# Altium integrated library Infineon_Microcontroller.IntLib: 721 symbols (part 37 of 66)
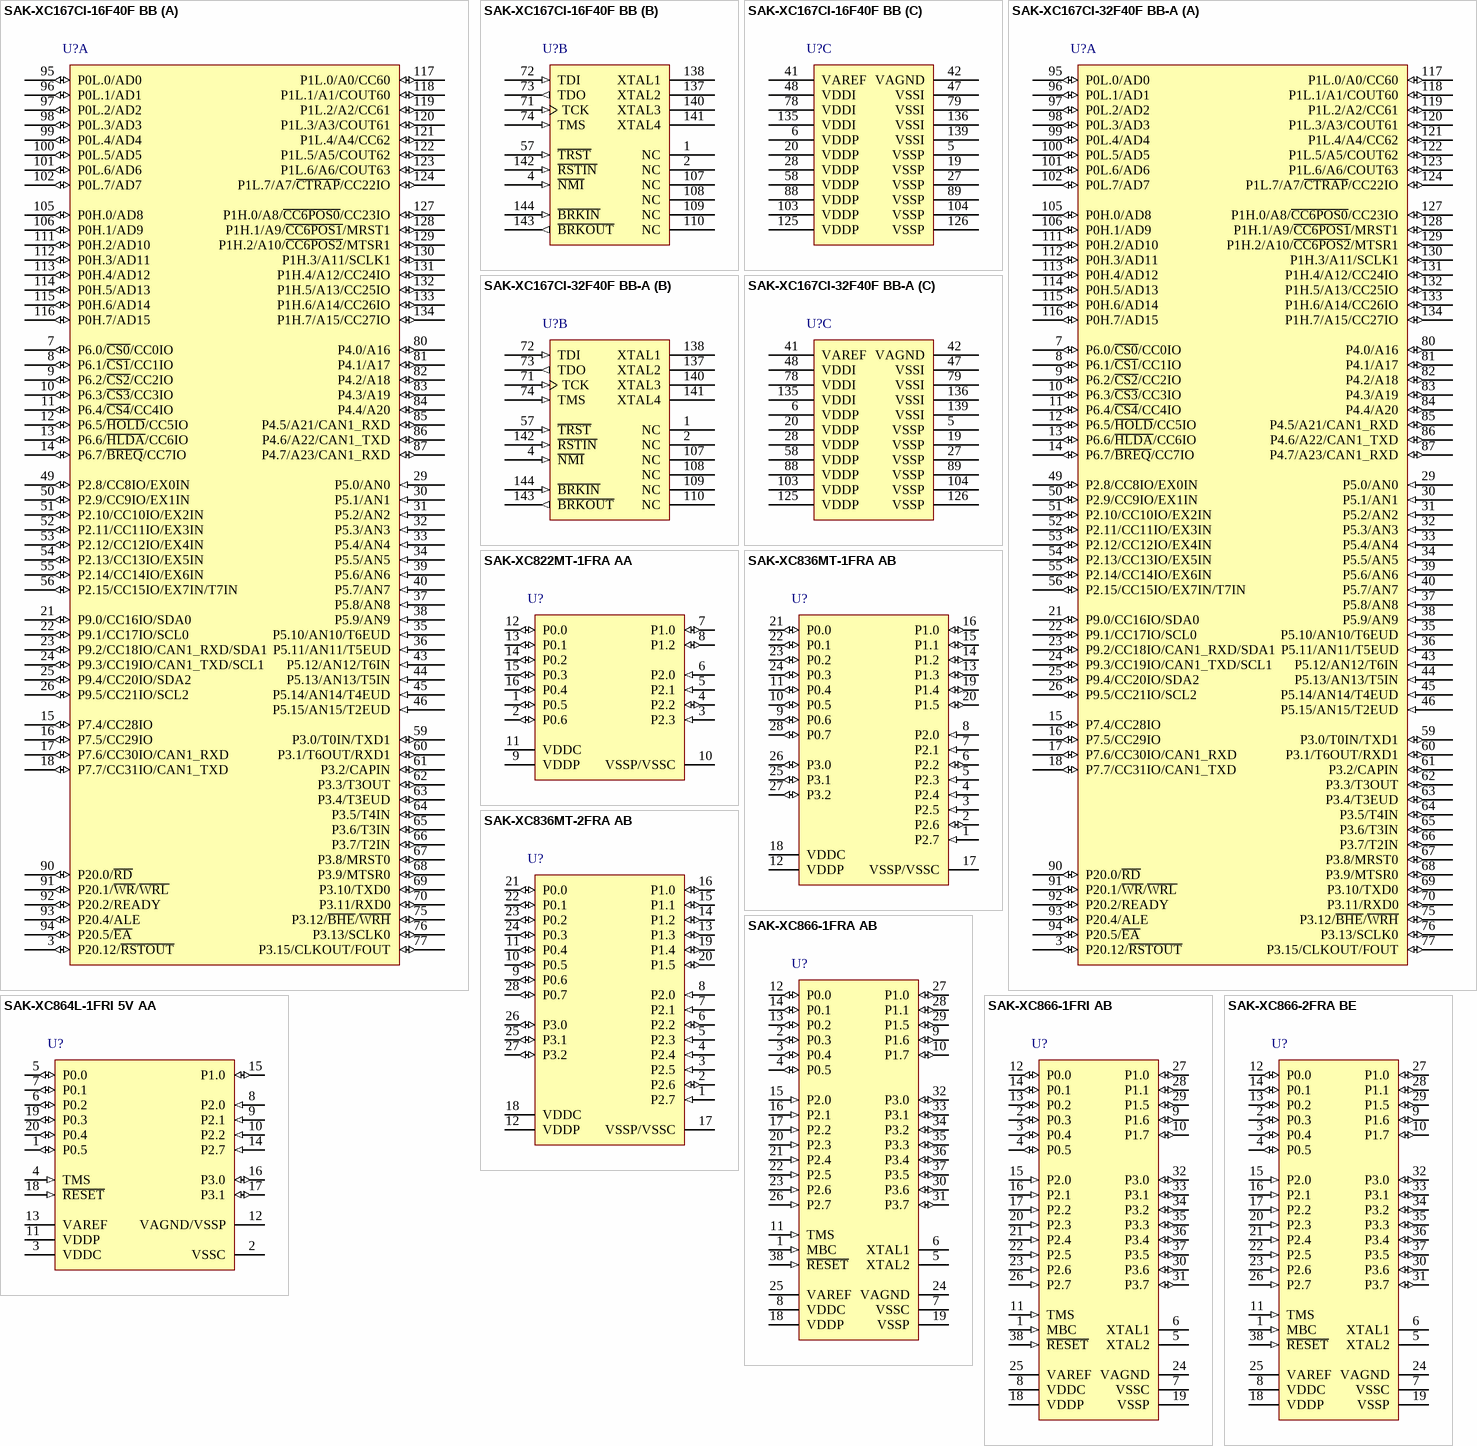
[diagram p154: symbols SAK-XC167CI-16F40F BB to SAK-XC866-2FRA BE]

## SAK-XC866-2FRA BE
designator U?
26.67 MHz XC800-Automotive MCU with 8 KByte Program Memory, 0.75 KByte SRAM, 5 V 3.3 V, PG-TSSOP-38, Reel, Green; Manufacturer: Infineon; PartNumber: SAK-XC866-2FRA BE; A / D input lines (incl. FADC): 8; CAN Nodes: 0; Digital I/O Lines: 27; DSP functionality (e.g MDU/MAC): FALSE; E2PROM Emulation (Data-Flash): TRUE; I/O Operation Voltages: 5 V 3.3 V; LIN BSL loader (for fast Flash programming): FALSE; Number of ADC Modules: 1; Power Modes: 4; Program Memory: 8 KByte; Serial I/O Interfaces: 2; Timer / Counter: 3; Type of Memory: Flash; Type of Serial I/O Interfaces: UART(1), SSC(1); DatasheetVersion: Rev. 1.2; PackageVersion: V1.2, 10/2007; PackageReference: PG-TSSOP-38-4; PackageDescription: 38-Pin Plastic (Green) Thin Shrink Small Outline Package, Body 9.7 x 4.4 mm, Pitch 0.5 mm; Supplier 1: Digi-Key; Supplier Part Number 1: SAK-XC866-2FRA BE-ND; DMA Channels: 0; Green: TRUE; Halogen-free: TRUE; Instruction width [bits]: 8; Max Clock Frequency: 26.67 MHz; On-chip clock generation: TRUE; On-chip Voltage Regulator: TRUE; Oscillator Watchdog: TRUE; Packing: Reel; Real Time Clock (RTC): FALSE; SRAM (incl. Cache): 0.75 KByte; Timed I/O Pins (PWM-Ch,CAPCOM): 4; Watchdog Timer: TRUE; Mounting Technology: Surface Mount; ComponentLink1Description: Manufacturer URL; ComponentLink1URL: http://www.infineon.com/; ComponentLink2Description: Datasheet; ComponentLink2URL: http://www.infineon.com/dgdl/XC866_ds_v12.pdf?folderId=db3a304412b407950112b408e8c90004&fileId=db3a304412b407950112b4198e7528a5; ComponentLink3Description: Package Specification; ComponentLink3URL: http://www.infineon.com/dgdl/XC866_ds_v12.pdf?folderId=db3a304412b407950112b408e8c90004&fileId=db3a304412b407950112b4198e7528a5&sId=db3a30433d956bc3013da013eedc2925
footprint INF-PG-TSSOP-38-4_N (SOP, 38-Leads, Body 9.7x4.4mm, Pitch 0.5mm, IPC Medium Density)
footprint INF-PG-TSSOP-38-4_L (SOP, 38-Leads, Body 9.7x4.4mm, Pitch 0.5mm, IPC High Density)
footprint INF-PG-TSSOP-38-4_M (SOP, 38-Leads, Body 9.7x4.4mm, Pitch 0.5mm, IPC Low Density)
pins: 1 MBC (in) "Monitor & BootStrap Loader Control", 2 P0.3 (io), 3 P0.4 (io), 4 P0.5 (io), 5 XTAL2 "External Oscillator Output (NC if not needed)", 6 XTAL1 "External Oscillator Input (NC if not needed)", 7 VSSC (power) "Core Supply Ground", 8 VDDC (power) "Core Supply Monitor (2.5 V)", 9 P1.6 (io), 10 P1.7 (io), 11 TMS (in) "Test Mode Select", 12 P0.0 (io), 13 P0.2 (io), 14 P0.1 (io), 15 P2.0 (in), 16 P2.1 (in), 17 P2.2 (in), 18 VDDP (power) "I/O Port Supply (3.3 V/5.0 V) Also used by EVR and analog modules.", 19 VSSP (power) "I/O Port Ground", 20 P2.3 (in), 21 P2.4 (in), 22 P2.5 (in), 23 P2.6 (in), 24 VAGND (power) "ADC Reference Ground", 25 VAREF (power) "ADC Reference Voltage", 26 P2.7 (in), 27 P1.0 (io), 28 P1.1 (io), 29 P1.5 (io), 30 P3.6 (io), 31 P3.7 (io), 32 P3.0 (io), 33 P3.1 (io), 34 P3.2 (io), 35 P3.3 (io), 36 P3.4 (io), 37 P3.5 (io), 38 ~{RESET} (in) "Reset Input"

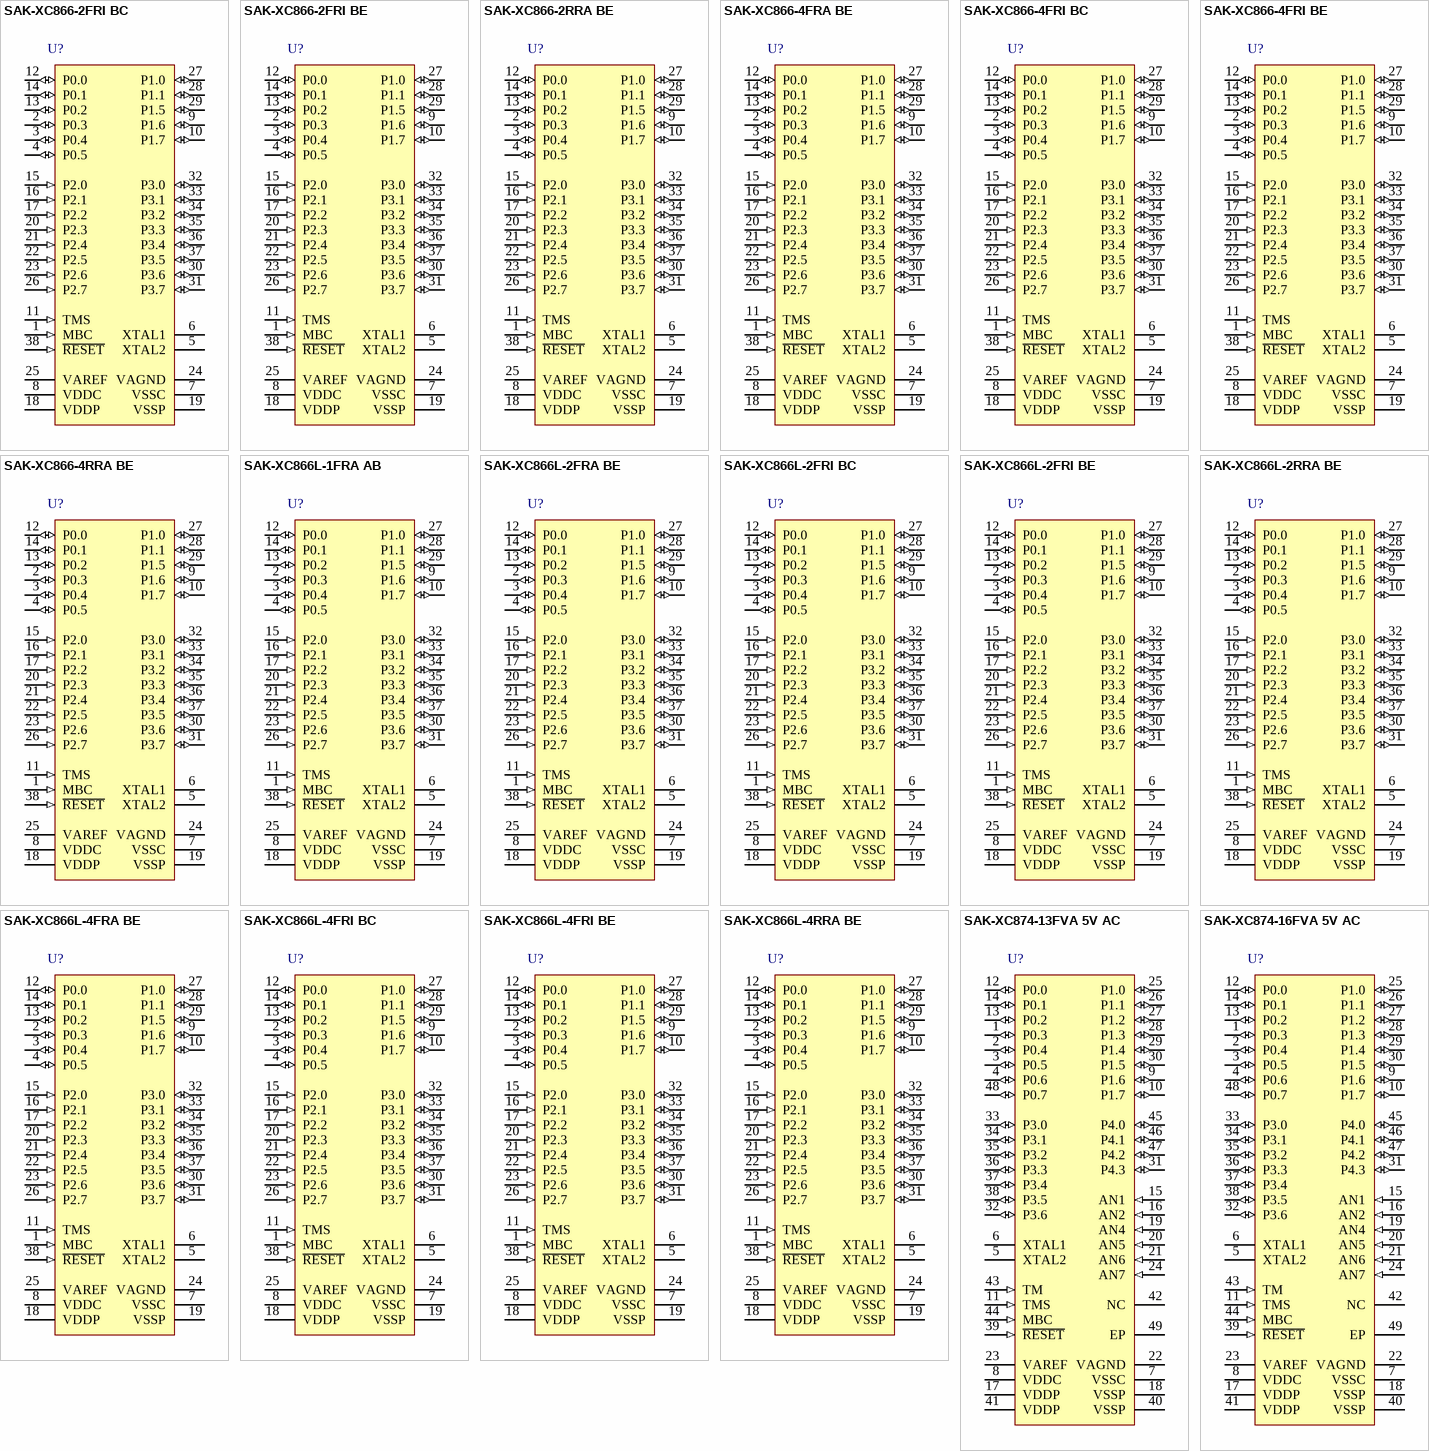
[diagram p67: symbols SAK-XC866-2FRI BC to SAK-XC874-16FVA 5V AC]

## SAK-XC866-2FRI BC
designator U?
26.67 MHz XC800 MCU with 8 KByte Program Memory, 0.75 KByte SRAM, -40 to 125 degC, PG-TSSOP-38-4, Green; Manufacturer: Infineon; PartNumber: SAK-XC866-2FRI BC; A / D input lines (incl. FADC): 8; CAN Nodes: 0; Green: TRUE; Packing: Reel; Program Memory: 8 KByte; DatasheetVersion: Rev. 1.2; PackageVersion: V1.2, 10/2007; PackageReference: PG-TSSOP-38-4; PackageDescription: 38-Pin Plastic (Green) Thin Shrink Small Outline Package, Body 9.7 x 4.4 mm, Pitch 0.5 mm; Supplier 1: Digi-Key; Supplier Part Number 1: SAK-XC866-2FRIBCINTR-ND; Supplier 2: Digi-Key; Supplier Part Number 2: SAK-XC866-2FRIBCINCT-ND; Supplier 3: Digi-Key; Supplier Part Number 3: SAK-XC866-2FRIBCINDKR-ND; Halogen-free: FALSE; Max Clock Frequency: 26.67 MHz; SRAM (incl. Cache): 0.75 KByte; Mounting Technology: Surface Mount; ComponentLink1Description: Manufacturer URL; ComponentLink1URL: http://www.infineon.com/; ComponentLink2Description: Datasheet; ComponentLink2URL: http://www.infineon.com/dgdl/XC866_ds_v12.pdf?folderId=db3a304412b407950112b408e8c90004&fileId=db3a304412b407950112b4198e7528a5; ComponentLink3Description: Package Specification; ComponentLink3URL: http://www.infineon.com/dgdl/XC866_ds_v12.pdf?folderId=db3a304412b407950112b408e8c90004&fileId=db3a304412b407950112b4198e7528a5&sId=db3a30433d956bc3013da013eedc2925
footprint INF-PG-TSSOP-38-4_N (SOP, 38-Leads, Body 9.7x4.4mm, Pitch 0.5mm, IPC Medium Density)
footprint INF-PG-TSSOP-38-4_L (SOP, 38-Leads, Body 9.7x4.4mm, Pitch 0.5mm, IPC High Density)
footprint INF-PG-TSSOP-38-4_M (SOP, 38-Leads, Body 9.7x4.4mm, Pitch 0.5mm, IPC Low Density)
pins: 1 MBC (in) "Monitor & BootStrap Loader Control", 2 P0.3 (io), 3 P0.4 (io), 4 P0.5 (io), 5 XTAL2 "External Oscillator Output (NC if not needed)", 6 XTAL1 "External Oscillator Input (NC if not needed)", 7 VSSC (power) "Core Supply Ground", 8 VDDC (power) "Core Supply Monitor (2.5 V)", 9 P1.6 (io), 10 P1.7 (io), 11 TMS (in) "Test Mode Select", 12 P0.0 (io), 13 P0.2 (io), 14 P0.1 (io), 15 P2.0 (in), 16 P2.1 (in), 17 P2.2 (in), 18 VDDP (power) "I/O Port Supply (3.3 V/5.0 V) Also used by EVR and analog modules.", 19 VSSP (power) "I/O Port Ground", 20 P2.3 (in), 21 P2.4 (in), 22 P2.5 (in), 23 P2.6 (in), 24 VAGND (power) "ADC Reference Ground", 25 VAREF (power) "ADC Reference Voltage", 26 P2.7 (in), 27 P1.0 (io), 28 P1.1 (io), 29 P1.5 (io), 30 P3.6 (io), 31 P3.7 (io), 32 P3.0 (io), 33 P3.1 (io), 34 P3.2 (io), 35 P3.3 (io), 36 P3.4 (io), 37 P3.5 (io), 38 ~{RESET} (in) "Reset Input"

## SAK-XC866-2FRI BE
designator U?
26.67 MHz XC800-Industrail MCU with 8 KByte Program Memory, 0.75 KByte SRAM, 5 V, -40 to 125 degC, PG-TSSOP-38, Reel, Green; Manufacturer: Infineon; PartNumber: SAK-XC866-2FRI BE; A / D input lines (incl. FADC): 8; CAN Nodes: 0; Digital I/O Lines: 27; DSP functionality (e.g MDU/MAC): FALSE; E2PROM Emulation (Data-Flash): TRUE; I/O Operation Voltages: 5 V; LIN BSL loader (for fast Flash programming): FALSE; Number of ADC Modules: 1; Power Modes: 4; Program Memory: 8 KByte; Serial I/O Interfaces: 2; Timer / Counter: 3; Type of Memory: Flash; Type of Serial I/O Interfaces: UART(1), SSC(1); DatasheetVersion: Rev. 1.2; PackageVersion: V1.2, 10/2007; PackageReference: PG-TSSOP-38-4; PackageDescription: 38-Pin Plastic (Green) Thin Shrink Small Outline Package, Body 9.7 x 4.4 mm, Pitch 0.5 mm; Supplier 1: Mouser; Supplier Part Number 1: 726-SAK-XC866-2FRIBE; Supplier 2: Digi-Key; Supplier Part Number 2: SAK-XC866-2FRI BE-ND; DMA Channels: 0; Green: TRUE; Halogen-free: TRUE; Instruction width [bits]: 8; Max Clock Frequency: 26.67 MHz; On-chip clock generation: TRUE; On-chip Voltage Regulator: TRUE; Oscillator Watchdog: TRUE; Packing: Reel; SRAM (incl. Cache): 0.75 KByte; Timed I/O Pins (PWM-Ch,CAPCOM): 4; Watchdog Timer: TRUE; Mounting Technology: Surface Mount; ComponentLink1Description: Manufacturer URL; ComponentLink1URL: http://www.infineon.com/; ComponentLink2Description: Datasheet; ComponentLink2URL: http://www.infineon.com/dgdl/XC866_ds_v12.pdf?folderId=db3a304412b407950112b408e8c90004&fileId=db3a304412b407950112b4198e7528a5; ComponentLink3Description: Package Specification; ComponentLink3URL: http://www.infineon.com/dgdl/XC866_ds_v12.pdf?folderId=db3a304412b407950112b408e8c90004&fileId=db3a304412b407950112b4198e7528a5&sId=db3a30433d956bc3013da013eedc2925
footprint INF-PG-TSSOP-38-4_N (SOP, 38-Leads, Body 9.7x4.4mm, Pitch 0.5mm, IPC Medium Density)
footprint INF-PG-TSSOP-38-4_L (SOP, 38-Leads, Body 9.7x4.4mm, Pitch 0.5mm, IPC High Density)
footprint INF-PG-TSSOP-38-4_M (SOP, 38-Leads, Body 9.7x4.4mm, Pitch 0.5mm, IPC Low Density)
pins: 1 MBC (in) "Monitor & BootStrap Loader Control", 2 P0.3 (io), 3 P0.4 (io), 4 P0.5 (io), 5 XTAL2 "External Oscillator Output (NC if not needed)", 6 XTAL1 "External Oscillator Input (NC if not needed)", 7 VSSC (power) "Core Supply Ground", 8 VDDC (power) "Core Supply Monitor (2.5 V)", 9 P1.6 (io), 10 P1.7 (io), 11 TMS (in) "Test Mode Select", 12 P0.0 (io), 13 P0.2 (io), 14 P0.1 (io), 15 P2.0 (in), 16 P2.1 (in), 17 P2.2 (in), 18 VDDP (power) "I/O Port Supply (3.3 V/5.0 V) Also used by EVR and analog modules.", 19 VSSP (power) "I/O Port Ground", 20 P2.3 (in), 21 P2.4 (in), 22 P2.5 (in), 23 P2.6 (in), 24 VAGND (power) "ADC Reference Ground", 25 VAREF (power) "ADC Reference Voltage", 26 P2.7 (in), 27 P1.0 (io), 28 P1.1 (io), 29 P1.5 (io), 30 P3.6 (io), 31 P3.7 (io), 32 P3.0 (io), 33 P3.1 (io), 34 P3.2 (io), 35 P3.3 (io), 36 P3.4 (io), 37 P3.5 (io), 38 ~{RESET} (in) "Reset Input"

## SAK-XC866-2RRA BE
designator U?
26.67 MHz XC800-Automotive MCU with 8 KByte Program Memory, 0.75 KByte SRAM, 5 V, PG-TSSOP-38, Green; Manufacturer: Infineon; PartNumber: SAK-XC866-2RRA BE; A / D input lines (incl. FADC): 8; CAN Nodes: 0; Digital I/O Lines: 27; DSP functionality (e.g MDU/MAC): FALSE; E2PROM Emulation (Data-Flash): TRUE; I/O Operation Voltages: 5 V; LIN BSL loader (for fast Flash programming): FALSE; Number of ADC Modules: 1; Power Modes: 4; Program Memory: 8 KByte; Serial I/O Interfaces: 2; Timer / Counter: 3; Type of Memory: ROM; Type of Serial I/O Interfaces: UART(1), SSC(1); DatasheetVersion: Rev. 1.2; PackageVersion: V1.2, 10/2007; PackageReference: PG-TSSOP-38-4; PackageDescription: 38-Pin Plastic (Green) Thin Shrink Small Outline Package, Body 9.7 x 4.4 mm, Pitch 0.5 mm; DMA Channels: 0; Green: TRUE; Instruction width [bits]: 8; Max Clock Frequency: 26.67 MHz; On-chip clock generation: TRUE; On-chip Voltage Regulator: TRUE; Oscillator Watchdog: TRUE; Real Time Clock (RTC): FALSE; SRAM (incl. Cache): 0.75 KByte; Timed I/O Pins (PWM-Ch,CAPCOM): 4; Watchdog Timer: TRUE; Mounting Technology: Surface Mount; ComponentLink1Description: Manufacturer URL; ComponentLink1URL: http://www.infineon.com/; ComponentLink2Description: Datasheet; ComponentLink2URL: http://www.infineon.com/dgdl/XC866_ds_v12.pdf?folderId=db3a304412b407950112b408e8c90004&fileId=db3a304412b407950112b4198e7528a5; ComponentLink3Description: Package Specification; ComponentLink3URL: http://www.infineon.com/dgdl/XC866_ds_v12.pdf?folderId=db3a304412b407950112b408e8c90004&fileId=db3a304412b407950112b4198e7528a5&sId=db3a30433d956bc3013da013eedc2925
footprint INF-PG-TSSOP-38-4_N (SOP, 38-Leads, Body 9.7x4.4mm, Pitch 0.5mm, IPC Medium Density)
footprint INF-PG-TSSOP-38-4_L (SOP, 38-Leads, Body 9.7x4.4mm, Pitch 0.5mm, IPC High Density)
footprint INF-PG-TSSOP-38-4_M (SOP, 38-Leads, Body 9.7x4.4mm, Pitch 0.5mm, IPC Low Density)
pins: 1 MBC (in) "Monitor & BootStrap Loader Control", 2 P0.3 (io), 3 P0.4 (io), 4 P0.5 (io), 5 XTAL2 "External Oscillator Output (NC if not needed)", 6 XTAL1 "External Oscillator Input (NC if not needed)", 7 VSSC (power) "Core Supply Ground", 8 VDDC (power) "Core Supply Monitor (2.5 V)", 9 P1.6 (io), 10 P1.7 (io), 11 TMS (in) "Test Mode Select", 12 P0.0 (io), 13 P0.2 (io), 14 P0.1 (io), 15 P2.0 (in), 16 P2.1 (in), 17 P2.2 (in), 18 VDDP (power) "I/O Port Supply (3.3 V/5.0 V) Also used by EVR and analog modules.", 19 VSSP (power) "I/O Port Ground", 20 P2.3 (in), 21 P2.4 (in), 22 P2.5 (in), 23 P2.6 (in), 24 VAGND (power) "ADC Reference Ground", 25 VAREF (power) "ADC Reference Voltage", 26 P2.7 (in), 27 P1.0 (io), 28 P1.1 (io), 29 P1.5 (io), 30 P3.6 (io), 31 P3.7 (io), 32 P3.0 (io), 33 P3.1 (io), 34 P3.2 (io), 35 P3.3 (io), 36 P3.4 (io), 37 P3.5 (io), 38 ~{RESET} (in) "Reset Input"

## SAK-XC866-4FRA BE
designator U?
26.67 MHz XC800-Automotive MCU with 16 KByte Program Memory, 0.75 KByte SRAM, 5 V, PG-TSSOP-38, Reel, Green; Manufacturer: Infineon; PartNumber: SAK-XC866-4FRA BE; A / D input lines (incl. FADC): 8; CAN Nodes: 0; Digital I/O Lines: 27; DSP functionality (e.g MDU/MAC): FALSE; E2PROM Emulation (Data-Flash): TRUE; I/O Operation Voltages: 5 V; LIN BSL loader (for fast Flash programming): FALSE; Number of ADC Modules: 1; Power Modes: 4; Serial I/O Interfaces: 2; Timer / Counter: 3; Type of Memory: Flash; Type of Serial I/O Interfaces: UART(1), SSC(1); DatasheetVersion: Rev. 1.2; PackageVersion: V1.2, 10/2007; PackageReference: PG-TSSOP-38-4; PackageDescription: 38-Pin Plastic (Green) Thin Shrink Small Outline Package, Body 9.7 x 4.4 mm, Pitch 0.5 mm; Supplier 1: Mouser; Supplier Part Number 1: 726-SAKXC8664FRABE; Supplier 2: Digi-Key; Supplier Part Number 2: SAK-XC866-4FRA BE-ND; DMA Channels: 0; Green: TRUE; Halogen-free: TRUE; Instruction width [bits]: 8; Max Clock Frequency: 26.67 MHz; On-chip clock generation: TRUE; On-chip Voltage Regulator: TRUE; Oscillator Watchdog: TRUE; Packing: Reel; Program Memory: 16 KByte; Real Time Clock (RTC): FALSE; SRAM (incl. Cache): 0.75 KByte; Timed I/O Pins (PWM-Ch,CAPCOM): 4; Watchdog Timer: TRUE; Mounting Technology: Surface Mount; ComponentLink1Description: Manufacturer URL; ComponentLink1URL: http://www.infineon.com/; ComponentLink2Description: Datasheet; ComponentLink2URL: http://www.infineon.com/dgdl/XC866_ds_v12.pdf?folderId=db3a304412b407950112b408e8c90004&fileId=db3a304412b407950112b4198e7528a5; ComponentLink3Description: Package Specification; ComponentLink3URL: http://www.infineon.com/dgdl/XC866_ds_v12.pdf?folderId=db3a304412b407950112b408e8c90004&fileId=db3a304412b407950112b4198e7528a5&sId=db3a30433d956bc3013da013eedc2925
footprint INF-PG-TSSOP-38-4_N (SOP, 38-Leads, Body 9.7x4.4mm, Pitch 0.5mm, IPC Medium Density)
footprint INF-PG-TSSOP-38-4_L (SOP, 38-Leads, Body 9.7x4.4mm, Pitch 0.5mm, IPC High Density)
footprint INF-PG-TSSOP-38-4_M (SOP, 38-Leads, Body 9.7x4.4mm, Pitch 0.5mm, IPC Low Density)
pins: 1 MBC (in) "Monitor & BootStrap Loader Control", 2 P0.3 (io), 3 P0.4 (io), 4 P0.5 (io), 5 XTAL2 "External Oscillator Output (NC if not needed)", 6 XTAL1 "External Oscillator Input (NC if not needed)", 7 VSSC (power) "Core Supply Ground", 8 VDDC (power) "Core Supply Monitor (2.5 V)", 9 P1.6 (io), 10 P1.7 (io), 11 TMS (in) "Test Mode Select", 12 P0.0 (io), 13 P0.2 (io), 14 P0.1 (io), 15 P2.0 (in), 16 P2.1 (in), 17 P2.2 (in), 18 VDDP (power) "I/O Port Supply (3.3 V/5.0 V) Also used by EVR and analog modules.", 19 VSSP (power) "I/O Port Ground", 20 P2.3 (in), 21 P2.4 (in), 22 P2.5 (in), 23 P2.6 (in), 24 VAGND (power) "ADC Reference Ground", 25 VAREF (power) "ADC Reference Voltage", 26 P2.7 (in), 27 P1.0 (io), 28 P1.1 (io), 29 P1.5 (io), 30 P3.6 (io), 31 P3.7 (io), 32 P3.0 (io), 33 P3.1 (io), 34 P3.2 (io), 35 P3.3 (io), 36 P3.4 (io), 37 P3.5 (io), 38 ~{RESET} (in) "Reset Input"

## SAK-XC866-4FRI BC
designator U?
26.67 MHz XC800 MCU with 16 KByte Program Memory, 0.75 KByte SRAM, -40 to 125 degC, PG-TSSOP-38-4, Green; Manufacturer: Infineon; PartNumber: SAK-XC866-4FRI BC; A / D input lines (incl. FADC): 8; CAN Nodes: 0; Green: TRUE; Packing: Reel; DatasheetVersion: Rev. 1.2; PackageVersion: V1.2, 10/2007; PackageReference: PG-TSSOP-38-4; PackageDescription: 38-Pin Plastic (Green) Thin Shrink Small Outline Package, Body 9.7 x 4.4 mm, Pitch 0.5 mm; Supplier 1: Digi-Key; Supplier Part Number 1: SAK-XC866-4FRIBCINTR-ND; Supplier 2: Digi-Key; Supplier Part Number 2: SAK-XC866-4FRIBCINCT-ND; Supplier 3: Digi-Key; Supplier Part Number 3: SAK-XC866-4FRIBCINDKR-ND; Halogen-free: FALSE; Max Clock Frequency: 26.67 MHz; Program Memory: 16 KByte; SRAM (incl. Cache): 0.75 KByte; Mounting Technology: Surface Mount; ComponentLink1Description: Manufacturer URL; ComponentLink1URL: http://www.infineon.com/; ComponentLink2Description: Datasheet; ComponentLink2URL: http://www.infineon.com/dgdl/XC866_ds_v12.pdf?folderId=db3a304412b407950112b408e8c90004&fileId=db3a304412b407950112b4198e7528a5; ComponentLink3Description: Package Specification; ComponentLink3URL: http://www.infineon.com/dgdl/XC866_ds_v12.pdf?folderId=db3a304412b407950112b408e8c90004&fileId=db3a304412b407950112b4198e7528a5&sId=db3a30433d956bc3013da013eedc2925
footprint INF-PG-TSSOP-38-4_N (SOP, 38-Leads, Body 9.7x4.4mm, Pitch 0.5mm, IPC Medium Density)
footprint INF-PG-TSSOP-38-4_L (SOP, 38-Leads, Body 9.7x4.4mm, Pitch 0.5mm, IPC High Density)
footprint INF-PG-TSSOP-38-4_M (SOP, 38-Leads, Body 9.7x4.4mm, Pitch 0.5mm, IPC Low Density)
pins: 1 MBC (in) "Monitor & BootStrap Loader Control", 2 P0.3 (io), 3 P0.4 (io), 4 P0.5 (io), 5 XTAL2 "External Oscillator Output (NC if not needed)", 6 XTAL1 "External Oscillator Input (NC if not needed)", 7 VSSC (power) "Core Supply Ground", 8 VDDC (power) "Core Supply Monitor (2.5 V)", 9 P1.6 (io), 10 P1.7 (io), 11 TMS (in) "Test Mode Select", 12 P0.0 (io), 13 P0.2 (io), 14 P0.1 (io), 15 P2.0 (in), 16 P2.1 (in), 17 P2.2 (in), 18 VDDP (power) "I/O Port Supply (3.3 V/5.0 V) Also used by EVR and analog modules.", 19 VSSP (power) "I/O Port Ground", 20 P2.3 (in), 21 P2.4 (in), 22 P2.5 (in), 23 P2.6 (in), 24 VAGND (power) "ADC Reference Ground", 25 VAREF (power) "ADC Reference Voltage", 26 P2.7 (in), 27 P1.0 (io), 28 P1.1 (io), 29 P1.5 (io), 30 P3.6 (io), 31 P3.7 (io), 32 P3.0 (io), 33 P3.1 (io), 34 P3.2 (io), 35 P3.3 (io), 36 P3.4 (io), 37 P3.5 (io), 38 ~{RESET} (in) "Reset Input"

## SAK-XC866-4FRI BE
designator U?
26.67 MHz XC800-Industrail MCU with 16 KByte Program Memory, 0.75 KByte SRAM, 5 V, -40 to 125 degC, PG-TSSOP-38, Reel, Green; Manufacturer: Infineon; PartNumber: SAK-XC866-4FRI BE; A / D input lines (incl. FADC): 8; CAN Nodes: 0; Digital I/O Lines: 27; DSP functionality (e.g MDU/MAC): FALSE; E2PROM Emulation (Data-Flash): TRUE; I/O Operation Voltages: 5 V; LIN BSL loader (for fast Flash programming): FALSE; Number of ADC Modules: 1; Power Modes: 4; Serial I/O Interfaces: 2; Timer / Counter: 3; Type of Memory: Flash; Type of Serial I/O Interfaces: UART(1), SSC(1); DatasheetVersion: Rev. 1.2; PackageVersion: V1.2, 10/2007; PackageReference: PG-TSSOP-38-4; PackageDescription: 38-Pin Plastic (Green) Thin Shrink Small Outline Package, Body 9.7 x 4.4 mm, Pitch 0.5 mm; Supplier 1: Mouser; Supplier Part Number 1: 726-SAK-XC866-4FRIBE; Supplier 2: Digi-Key; Supplier Part Number 2: SAK-XC866-4FRI BE-ND; DMA Channels: 0; Green: TRUE; Halogen-free: TRUE; Instruction width [bits]: 8; Max Clock Frequency: 26.67 MHz; On-chip clock generation: TRUE; On-chip Voltage Regulator: TRUE; Oscillator Watchdog: TRUE; Packing: Reel; Program Memory: 16 KByte; SRAM (incl. Cache): 0.75 KByte; Timed I/O Pins (PWM-Ch,CAPCOM): 4; Watchdog Timer: TRUE; Mounting Technology: Surface Mount; ComponentLink1Description: Manufacturer URL; ComponentLink1URL: http://www.infineon.com/; ComponentLink2Description: Datasheet; ComponentLink2URL: http://www.infineon.com/dgdl/XC866_ds_v12.pdf?folderId=db3a304412b407950112b408e8c90004&fileId=db3a304412b407950112b4198e7528a5; ComponentLink3Description: Package Specification; ComponentLink3URL: http://www.infineon.com/dgdl/XC866_ds_v12.pdf?folderId=db3a304412b407950112b408e8c90004&fileId=db3a304412b407950112b4198e7528a5&sId=db3a30433d956bc3013da013eedc2925
footprint INF-PG-TSSOP-38-4_N (SOP, 38-Leads, Body 9.7x4.4mm, Pitch 0.5mm, IPC Medium Density)
footprint INF-PG-TSSOP-38-4_L (SOP, 38-Leads, Body 9.7x4.4mm, Pitch 0.5mm, IPC High Density)
footprint INF-PG-TSSOP-38-4_M (SOP, 38-Leads, Body 9.7x4.4mm, Pitch 0.5mm, IPC Low Density)
pins: 1 MBC (in) "Monitor & BootStrap Loader Control", 2 P0.3 (io), 3 P0.4 (io), 4 P0.5 (io), 5 XTAL2 "External Oscillator Output (NC if not needed)", 6 XTAL1 "External Oscillator Input (NC if not needed)", 7 VSSC (power) "Core Supply Ground", 8 VDDC (power) "Core Supply Monitor (2.5 V)", 9 P1.6 (io), 10 P1.7 (io), 11 TMS (in) "Test Mode Select", 12 P0.0 (io), 13 P0.2 (io), 14 P0.1 (io), 15 P2.0 (in), 16 P2.1 (in), 17 P2.2 (in), 18 VDDP (power) "I/O Port Supply (3.3 V/5.0 V) Also used by EVR and analog modules.", 19 VSSP (power) "I/O Port Ground", 20 P2.3 (in), 21 P2.4 (in), 22 P2.5 (in), 23 P2.6 (in), 24 VAGND (power) "ADC Reference Ground", 25 VAREF (power) "ADC Reference Voltage", 26 P2.7 (in), 27 P1.0 (io), 28 P1.1 (io), 29 P1.5 (io), 30 P3.6 (io), 31 P3.7 (io), 32 P3.0 (io), 33 P3.1 (io), 34 P3.2 (io), 35 P3.3 (io), 36 P3.4 (io), 37 P3.5 (io), 38 ~{RESET} (in) "Reset Input"

## SAK-XC866-4RRA BE
designator U?
26.67 MHz XC800-Automotive MCU with 16 KByte Program Memory, 0.75 KByte SRAM, 5 V, PG-TSSOP-38, Green; Manufacturer: Infineon; PartNumber: SAK-XC866-4RRA BE; A / D input lines (incl. FADC): 8; CAN Nodes: 0; Digital I/O Lines: 27; DSP functionality (e.g MDU/MAC): FALSE; E2PROM Emulation (Data-Flash): TRUE; I/O Operation Voltages: 5 V; LIN BSL loader (for fast Flash programming): FALSE; Number of ADC Modules: 1; Power Modes: 4; Serial I/O Interfaces: 2; Timer / Counter: 3; Type of Memory: ROM; Type of Serial I/O Interfaces: UART(1), SSC(1); DatasheetVersion: Rev. 1.2; PackageVersion: V1.2, 10/2007; PackageReference: PG-TSSOP-38-4; PackageDescription: 38-Pin Plastic (Green) Thin Shrink Small Outline Package, Body 9.7 x 4.4 mm, Pitch 0.5 mm; DMA Channels: 0; Green: TRUE; Instruction width [bits]: 8; Max Clock Frequency: 26.67 MHz; On-chip clock generation: TRUE; On-chip Voltage Regulator: TRUE; Oscillator Watchdog: TRUE; Program Memory: 16 KByte; Real Time Clock (RTC): FALSE; SRAM (incl. Cache): 0.75 KByte; Timed I/O Pins (PWM-Ch,CAPCOM): 4; Watchdog Timer: TRUE; Mounting Technology: Surface Mount; ComponentLink1Description: Manufacturer URL; ComponentLink1URL: http://www.infineon.com/; ComponentLink2Description: Datasheet; ComponentLink2URL: http://www.infineon.com/dgdl/XC866_ds_v12.pdf?folderId=db3a304412b407950112b408e8c90004&fileId=db3a304412b407950112b4198e7528a5; ComponentLink3Description: Package Specification; ComponentLink3URL: http://www.infineon.com/dgdl/XC866_ds_v12.pdf?folderId=db3a304412b407950112b408e8c90004&fileId=db3a304412b407950112b4198e7528a5&sId=db3a30433d956bc3013da013eedc2925
footprint INF-PG-TSSOP-38-4_N (SOP, 38-Leads, Body 9.7x4.4mm, Pitch 0.5mm, IPC Medium Density)
footprint INF-PG-TSSOP-38-4_L (SOP, 38-Leads, Body 9.7x4.4mm, Pitch 0.5mm, IPC High Density)
footprint INF-PG-TSSOP-38-4_M (SOP, 38-Leads, Body 9.7x4.4mm, Pitch 0.5mm, IPC Low Density)
pins: 1 MBC (in) "Monitor & BootStrap Loader Control", 2 P0.3 (io), 3 P0.4 (io), 4 P0.5 (io), 5 XTAL2 "External Oscillator Output (NC if not needed)", 6 XTAL1 "External Oscillator Input (NC if not needed)", 7 VSSC (power) "Core Supply Ground", 8 VDDC (power) "Core Supply Monitor (2.5 V)", 9 P1.6 (io), 10 P1.7 (io), 11 TMS (in) "Test Mode Select", 12 P0.0 (io), 13 P0.2 (io), 14 P0.1 (io), 15 P2.0 (in), 16 P2.1 (in), 17 P2.2 (in), 18 VDDP (power) "I/O Port Supply (3.3 V/5.0 V) Also used by EVR and analog modules.", 19 VSSP (power) "I/O Port Ground", 20 P2.3 (in), 21 P2.4 (in), 22 P2.5 (in), 23 P2.6 (in), 24 VAGND (power) "ADC Reference Ground", 25 VAREF (power) "ADC Reference Voltage", 26 P2.7 (in), 27 P1.0 (io), 28 P1.1 (io), 29 P1.5 (io), 30 P3.6 (io), 31 P3.7 (io), 32 P3.0 (io), 33 P3.1 (io), 34 P3.2 (io), 35 P3.3 (io), 36 P3.4 (io), 37 P3.5 (io), 38 ~{RESET} (in) "Reset Input"

## SAK-XC866L-1FRA AB
designator U?
26.67 MHz XC800-Automotive MCU with 4 KByte Program Memory, 0.75 KByte SRAM, 5 V, 3.3 V, PG-TSSOP-38, Reel, Green; Manufacturer: Infineon; PartNumber: SAK-XC866L-1FRA AB; A / D input lines (incl. FADC): 8; CAN Nodes: 0; Digital I/O Lines: 27; DSP functionality (e.g MDU/MAC): FALSE; E2PROM Emulation (Data-Flash): TRUE; I/O Operation Voltages: 5 V 3.3 V; LIN BSL loader (for fast Flash programming): FALSE; Number of ADC Modules: 1; Power Modes: 4; Program Memory: 4 KByte; Serial I/O Interfaces: 2; Timer / Counter: 3; Type of Memory: Flash; Type of Serial I/O Interfaces: UART(1), SSC(1); DatasheetVersion: Rev. 1.2; PackageVersion: V1.2, 10/2007; PackageReference: PG-TSSOP-38-4; PackageDescription: 38-Pin Plastic (Green) Thin Shrink Small Outline Package, Body 9.7 x 4.4 mm, Pitch 0.5 mm; Supplier 1: Mouser; Supplier Part Number 1: 726-SAKXC866L1FRAAB; Supplier 2: Digi-Key; Supplier Part Number 2: SAK-XC866L-1FRA AB-ND; DMA Channels: 0; Green: TRUE; Halogen-free: TRUE; Instruction width [bits]: 8; Max Clock Frequency: 26.67 MHz; On-chip clock generation: TRUE; On-chip Voltage Regulator: TRUE; Oscillator Watchdog: TRUE; Packing: Reel; Real Time Clock (RTC): FALSE; SRAM (incl. Cache): 0.75 KByte; Timed I/O Pins (PWM-Ch,CAPCOM): 4; Watchdog Timer: TRUE; Mounting Technology: Surface Mount; ComponentLink1Description: Manufacturer URL; ComponentLink1URL: http://www.infineon.com/; ComponentLink2Description: Datasheet; ComponentLink2URL: http://www.infineon.com/dgdl/XC866_ds_v12.pdf?folderId=db3a304412b407950112b408e8c90004&fileId=db3a304412b407950112b4198e7528a5; ComponentLink3Description: Package Specification; ComponentLink3URL: http://www.infineon.com/dgdl/XC866_ds_v12.pdf?folderId=db3a304412b407950112b408e8c90004&fileId=db3a304412b407950112b4198e7528a5&sId=db3a30433d956bc3013da013eedc2925
footprint INF-PG-TSSOP-38-4_N (SOP, 38-Leads, Body 9.7x4.4mm, Pitch 0.5mm, IPC Medium Density)
footprint INF-PG-TSSOP-38-4_L (SOP, 38-Leads, Body 9.7x4.4mm, Pitch 0.5mm, IPC High Density)
footprint INF-PG-TSSOP-38-4_M (SOP, 38-Leads, Body 9.7x4.4mm, Pitch 0.5mm, IPC Low Density)
pins: 1 MBC (in) "Monitor & BootStrap Loader Control", 2 P0.3 (io), 3 P0.4 (io), 4 P0.5 (io), 5 XTAL2 "External Oscillator Output (NC if not needed)", 6 XTAL1 "External Oscillator Input (NC if not needed)", 7 VSSC (power) "Core Supply Ground", 8 VDDC (power) "Core Supply Monitor (2.5 V)", 9 P1.6 (io), 10 P1.7 (io), 11 TMS (in) "Test Mode Select", 12 P0.0 (io), 13 P0.2 (io), 14 P0.1 (io), 15 P2.0 (in), 16 P2.1 (in), 17 P2.2 (in), 18 VDDP (power) "I/O Port Supply (3.3 V/5.0 V) Also used by EVR and analog modules.", 19 VSSP (power) "I/O Port Ground", 20 P2.3 (in), 21 P2.4 (in), 22 P2.5 (in), 23 P2.6 (in), 24 VAGND (power) "ADC Reference Ground", 25 VAREF (power) "ADC Reference Voltage", 26 P2.7 (in), 27 P1.0 (io), 28 P1.1 (io), 29 P1.5 (io), 30 P3.6 (io), 31 P3.7 (io), 32 P3.0 (io), 33 P3.1 (io), 34 P3.2 (io), 35 P3.3 (io), 36 P3.4 (io), 37 P3.5 (io), 38 ~{RESET} (in) "Reset Input"

## SAK-XC866L-2FRA BE
designator U?
26.67 MHz XC800-Automotive MCU with 8 KByte Program Memory, 0.75 KByte SRAM, 5 V, PG-TSSOP-38, Reel, Green; Manufacturer: Infineon; PartNumber: SAK-XC866L-2FRA BE; A / D input lines (incl. FADC): 8; CAN Nodes: 0; Digital I/O Lines: 27; DSP functionality (e.g MDU/MAC): FALSE; E2PROM Emulation (Data-Flash): TRUE; I/O Operation Voltages: 5 V; Number of ADC Modules: 1; Power Modes: 4; Program Memory: 8 KByte; Serial I/O Interfaces: 2; Timer / Counter: 3; Type of Memory: Flash; Type of Serial I/O Interfaces: UART(1), SSC(1); DatasheetVersion: Rev. 1.2; PackageVersion: V1.2, 10/2007; PackageReference: PG-TSSOP-38-4; PackageDescription: 38-Pin Plastic (Green) Thin Shrink Small Outline Package, Body 9.7 x 4.4 mm, Pitch 0.5 mm; Supplier 1: Digi-Key; Supplier Part Number 1: SAK-XC866L-2FRA BE-ND; DMA Channels: 0; Green: TRUE; Halogen-free: available; Instruction width [bits]: 8; LIN BSL loader (for fast Flash programming): TRUE; Max Clock Frequency: 26.67 MHz; On-chip clock generation: TRUE; On-chip Voltage Regulator: TRUE; Oscillator Watchdog: TRUE; Real Time Clock (RTC): FALSE; SRAM (incl. Cache): 0.75 KByte; Timed I/O Pins (PWM-Ch,CAPCOM): 4; Watchdog Timer: TRUE; Mounting Technology: Surface Mount; ComponentLink1Description: Manufacturer URL; ComponentLink1URL: http://www.infineon.com/; ComponentLink2Description: Datasheet; ComponentLink2URL: http://www.infineon.com/dgdl/XC866_ds_v12.pdf?folderId=db3a304412b407950112b408e8c90004&fileId=db3a304412b407950112b4198e7528a5; ComponentLink3Description: Package Specification; ComponentLink3URL: http://www.infineon.com/dgdl/XC866_ds_v12.pdf?folderId=db3a304412b407950112b408e8c90004&fileId=db3a304412b407950112b4198e7528a5&sId=db3a30433d956bc3013da013eedc2925
footprint INF-PG-TSSOP-38-4_N (SOP, 38-Leads, Body 9.7x4.4mm, Pitch 0.5mm, IPC Medium Density)
footprint INF-PG-TSSOP-38-4_L (SOP, 38-Leads, Body 9.7x4.4mm, Pitch 0.5mm, IPC High Density)
footprint INF-PG-TSSOP-38-4_M (SOP, 38-Leads, Body 9.7x4.4mm, Pitch 0.5mm, IPC Low Density)
pins: 1 MBC (in) "Monitor & BootStrap Loader Control", 2 P0.3 (io), 3 P0.4 (io), 4 P0.5 (io), 5 XTAL2 "External Oscillator Output (NC if not needed)", 6 XTAL1 "External Oscillator Input (NC if not needed)", 7 VSSC (power) "Core Supply Ground", 8 VDDC (power) "Core Supply Monitor (2.5 V)", 9 P1.6 (io), 10 P1.7 (io), 11 TMS (in) "Test Mode Select", 12 P0.0 (io), 13 P0.2 (io), 14 P0.1 (io), 15 P2.0 (in), 16 P2.1 (in), 17 P2.2 (in), 18 VDDP (power) "I/O Port Supply (3.3 V/5.0 V) Also used by EVR and analog modules.", 19 VSSP (power) "I/O Port Ground", 20 P2.3 (in), 21 P2.4 (in), 22 P2.5 (in), 23 P2.6 (in), 24 VAGND (power) "ADC Reference Ground", 25 VAREF (power) "ADC Reference Voltage", 26 P2.7 (in), 27 P1.0 (io), 28 P1.1 (io), 29 P1.5 (io), 30 P3.6 (io), 31 P3.7 (io), 32 P3.0 (io), 33 P3.1 (io), 34 P3.2 (io), 35 P3.3 (io), 36 P3.4 (io), 37 P3.5 (io), 38 ~{RESET} (in) "Reset Input"

## SAK-XC866L-2FRI BC
designator U?
26.67 MHz XC800 MCU with 8 KByte Program Memory, 0.75 KByte SRAM, -40 to 125 degC, PG-TSSOP-38-4, Green; Manufacturer: Infineon; PartNumber: SAK-XC866L-2FRI BC; A / D input lines (incl. FADC): 8; CAN Nodes: 0; Green: TRUE; Program Memory: 8 KByte; DatasheetVersion: Rev. 1.2; PackageVersion: V1.2, 10/2007; PackageReference: PG-TSSOP-38-4; PackageDescription: 38-Pin Plastic (Green) Thin Shrink Small Outline Package, Body 9.7 x 4.4 mm, Pitch 0.5 mm; Supplier 1: Digi-Key; Supplier Part Number 1: SAK-XC866L-2FRI BC-ND; Halogen-free: FALSE; Max Clock Frequency: 26.67 MHz; SRAM (incl. Cache): 0.75 KByte; Mounting Technology: Surface Mount; ComponentLink1Description: Manufacturer URL; ComponentLink1URL: http://www.infineon.com/; ComponentLink2Description: Datasheet; ComponentLink2URL: http://www.infineon.com/dgdl/XC866_ds_v12.pdf?folderId=db3a304412b407950112b408e8c90004&fileId=db3a304412b407950112b4198e7528a5; ComponentLink3Description: Package Specification; ComponentLink3URL: http://www.infineon.com/dgdl/XC866_ds_v12.pdf?folderId=db3a304412b407950112b408e8c90004&fileId=db3a304412b407950112b4198e7528a5&sId=db3a30433d956bc3013da013eedc2925
footprint INF-PG-TSSOP-38-4_N (SOP, 38-Leads, Body 9.7x4.4mm, Pitch 0.5mm, IPC Medium Density)
footprint INF-PG-TSSOP-38-4_L (SOP, 38-Leads, Body 9.7x4.4mm, Pitch 0.5mm, IPC High Density)
footprint INF-PG-TSSOP-38-4_M (SOP, 38-Leads, Body 9.7x4.4mm, Pitch 0.5mm, IPC Low Density)
pins: 1 MBC (in) "Monitor & BootStrap Loader Control", 2 P0.3 (io), 3 P0.4 (io), 4 P0.5 (io), 5 XTAL2 "External Oscillator Output (NC if not needed)", 6 XTAL1 "External Oscillator Input (NC if not needed)", 7 VSSC (power) "Core Supply Ground", 8 VDDC (power) "Core Supply Monitor (2.5 V)", 9 P1.6 (io), 10 P1.7 (io), 11 TMS (in) "Test Mode Select", 12 P0.0 (io), 13 P0.2 (io), 14 P0.1 (io), 15 P2.0 (in), 16 P2.1 (in), 17 P2.2 (in), 18 VDDP (power) "I/O Port Supply (3.3 V/5.0 V) Also used by EVR and analog modules.", 19 VSSP (power) "I/O Port Ground", 20 P2.3 (in), 21 P2.4 (in), 22 P2.5 (in), 23 P2.6 (in), 24 VAGND (power) "ADC Reference Ground", 25 VAREF (power) "ADC Reference Voltage", 26 P2.7 (in), 27 P1.0 (io), 28 P1.1 (io), 29 P1.5 (io), 30 P3.6 (io), 31 P3.7 (io), 32 P3.0 (io), 33 P3.1 (io), 34 P3.2 (io), 35 P3.3 (io), 36 P3.4 (io), 37 P3.5 (io), 38 ~{RESET} (in) "Reset Input"

## SAK-XC866L-2FRI BE
designator U?
26.67 MHz XC800-Industrail MCU with 8 KByte Program Memory, 0.75 KByte SRAM, 5 V, -40 to 125 degC, PG-TSSOP-38, Green; Manufacturer: Infineon; PartNumber: SAK-XC866L-2FRI BE; A / D input lines (incl. FADC): 8; CAN Nodes: 0; Digital I/O Lines: 27; DSP functionality (e.g MDU/MAC): FALSE; E2PROM Emulation (Data-Flash): TRUE; I/O Operation Voltages: 5 V; Number of ADC Modules: 1; Power Modes: 4; Program Memory: 8 KByte; Serial I/O Interfaces: 2; Timer / Counter: 3; Type of Memory: Flash; Type of Serial I/O Interfaces: UART(1), SSC(1); DatasheetVersion: Rev. 1.2; PackageVersion: V1.2, 10/2007; PackageReference: PG-TSSOP-38-4; PackageDescription: 38-Pin Plastic (Green) Thin Shrink Small Outline Package, Body 9.7 x 4.4 mm, Pitch 0.5 mm; Supplier 1: Digi-Key; Supplier Part Number 1: SAK-XC866L-2FRI BE-ND; DMA Channels: 0; Green: TRUE; Halogen-free: available; Instruction width [bits]: 8; LIN BSL loader (for fast Flash programming): TRUE; Max Clock Frequency: 26.67 MHz; On-chip clock generation: TRUE; On-chip Voltage Regulator: TRUE; Oscillator Watchdog: TRUE; SRAM (incl. Cache): 0.75 KByte; Timed I/O Pins (PWM-Ch,CAPCOM): 4; Watchdog Timer: TRUE; Mounting Technology: Surface Mount; ComponentLink1Description: Manufacturer URL; ComponentLink1URL: http://www.infineon.com/; ComponentLink2Description: Datasheet; ComponentLink2URL: http://www.infineon.com/dgdl/XC866_ds_v12.pdf?folderId=db3a304412b407950112b408e8c90004&fileId=db3a304412b407950112b4198e7528a5; ComponentLink3Description: Package Specification; ComponentLink3URL: http://www.infineon.com/dgdl/XC866_ds_v12.pdf?folderId=db3a304412b407950112b408e8c90004&fileId=db3a304412b407950112b4198e7528a5&sId=db3a30433d956bc3013da013eedc2925
footprint INF-PG-TSSOP-38-4_N (SOP, 38-Leads, Body 9.7x4.4mm, Pitch 0.5mm, IPC Medium Density)
footprint INF-PG-TSSOP-38-4_L (SOP, 38-Leads, Body 9.7x4.4mm, Pitch 0.5mm, IPC High Density)
footprint INF-PG-TSSOP-38-4_M (SOP, 38-Leads, Body 9.7x4.4mm, Pitch 0.5mm, IPC Low Density)
pins: 1 MBC (in) "Monitor & BootStrap Loader Control", 2 P0.3 (io), 3 P0.4 (io), 4 P0.5 (io), 5 XTAL2 "External Oscillator Output (NC if not needed)", 6 XTAL1 "External Oscillator Input (NC if not needed)", 7 VSSC (power) "Core Supply Ground", 8 VDDC (power) "Core Supply Monitor (2.5 V)", 9 P1.6 (io), 10 P1.7 (io), 11 TMS (in) "Test Mode Select", 12 P0.0 (io), 13 P0.2 (io), 14 P0.1 (io), 15 P2.0 (in), 16 P2.1 (in), 17 P2.2 (in), 18 VDDP (power) "I/O Port Supply (3.3 V/5.0 V) Also used by EVR and analog modules.", 19 VSSP (power) "I/O Port Ground", 20 P2.3 (in), 21 P2.4 (in), 22 P2.5 (in), 23 P2.6 (in), 24 VAGND (power) "ADC Reference Ground", 25 VAREF (power) "ADC Reference Voltage", 26 P2.7 (in), 27 P1.0 (io), 28 P1.1 (io), 29 P1.5 (io), 30 P3.6 (io), 31 P3.7 (io), 32 P3.0 (io), 33 P3.1 (io), 34 P3.2 (io), 35 P3.3 (io), 36 P3.4 (io), 37 P3.5 (io), 38 ~{RESET} (in) "Reset Input"

## SAK-XC866L-2RRA BE
designator U?
26.67 MHz XC800-Automotive MCU with 8 KByte Program Memory, 0.75 KByte SRAM, 5 V, PG-TSSOP-38, Green; Manufacturer: Infineon; PartNumber: SAK-XC866L-2RRA BE; A / D input lines (incl. FADC): 8; CAN Nodes: 0; Digital I/O Lines: 27; DSP functionality (e.g MDU/MAC): FALSE; E2PROM Emulation (Data-Flash): TRUE; I/O Operation Voltages: 5 V; LIN BSL loader (for fast Flash programming): FALSE; Number of ADC Modules: 1; Power Modes: 4; Program Memory: 8 KByte; Serial I/O Interfaces: 2; Timer / Counter: 3; Type of Memory: ROM; Type of Serial I/O Interfaces: UART(1), SSC(1); DatasheetVersion: Rev. 1.2; PackageVersion: V1.2, 10/2007; PackageReference: PG-TSSOP-38-4; PackageDescription: 38-Pin Plastic (Green) Thin Shrink Small Outline Package, Body 9.7 x 4.4 mm, Pitch 0.5 mm; DMA Channels: 0; Green: TRUE; Halogen-free: available; Instruction width [bits]: 8; Max Clock Frequency: 26.67 MHz; On-chip clock generation: TRUE; On-chip Voltage Regulator: TRUE; Oscillator Watchdog: TRUE; Real Time Clock (RTC): FALSE; SRAM (incl. Cache): 0.75 KByte; Timed I/O Pins (PWM-Ch,CAPCOM): 4; Watchdog Timer: TRUE; Mounting Technology: Surface Mount; ComponentLink1Description: Manufacturer URL; ComponentLink1URL: http://www.infineon.com/; ComponentLink2Description: Datasheet; ComponentLink2URL: http://www.infineon.com/dgdl/XC866_ds_v12.pdf?folderId=db3a304412b407950112b408e8c90004&fileId=db3a304412b407950112b4198e7528a5; ComponentLink3Description: Package Specification; ComponentLink3URL: http://www.infineon.com/dgdl/XC866_ds_v12.pdf?folderId=db3a304412b407950112b408e8c90004&fileId=db3a304412b407950112b4198e7528a5&sId=db3a30433d956bc3013da013eedc2925
footprint INF-PG-TSSOP-38-4_N (SOP, 38-Leads, Body 9.7x4.4mm, Pitch 0.5mm, IPC Medium Density)
footprint INF-PG-TSSOP-38-4_L (SOP, 38-Leads, Body 9.7x4.4mm, Pitch 0.5mm, IPC High Density)
footprint INF-PG-TSSOP-38-4_M (SOP, 38-Leads, Body 9.7x4.4mm, Pitch 0.5mm, IPC Low Density)
pins: 1 MBC (in) "Monitor & BootStrap Loader Control", 2 P0.3 (io), 3 P0.4 (io), 4 P0.5 (io), 5 XTAL2 "External Oscillator Output (NC if not needed)", 6 XTAL1 "External Oscillator Input (NC if not needed)", 7 VSSC (power) "Core Supply Ground", 8 VDDC (power) "Core Supply Monitor (2.5 V)", 9 P1.6 (io), 10 P1.7 (io), 11 TMS (in) "Test Mode Select", 12 P0.0 (io), 13 P0.2 (io), 14 P0.1 (io), 15 P2.0 (in), 16 P2.1 (in), 17 P2.2 (in), 18 VDDP (power) "I/O Port Supply (3.3 V/5.0 V) Also used by EVR and analog modules.", 19 VSSP (power) "I/O Port Ground", 20 P2.3 (in), 21 P2.4 (in), 22 P2.5 (in), 23 P2.6 (in), 24 VAGND (power) "ADC Reference Ground", 25 VAREF (power) "ADC Reference Voltage", 26 P2.7 (in), 27 P1.0 (io), 28 P1.1 (io), 29 P1.5 (io), 30 P3.6 (io), 31 P3.7 (io), 32 P3.0 (io), 33 P3.1 (io), 34 P3.2 (io), 35 P3.3 (io), 36 P3.4 (io), 37 P3.5 (io), 38 ~{RESET} (in) "Reset Input"

## SAK-XC866L-4FRA BE
designator U?
26.67 MHz XC800-Automotive MCU with 16 KByte Program Memory, 0.75 KByte SRAM, 5 V, PG-TSSOP-38, Reel, Green; Manufacturer: Infineon; PartNumber: SAK-XC866L-4FRA BE; A / D input lines (incl. FADC): 8; CAN Nodes: 0; Digital I/O Lines: 27; DSP functionality (e.g MDU/MAC): FALSE; E2PROM Emulation (Data-Flash): TRUE; I/O Operation Voltages: 5 V; Number of ADC Modules: 1; Power Modes: 4; Serial I/O Interfaces: 2; Timer / Counter: 3; Type of Memory: Flash; Type of Serial I/O Interfaces: UART(1), SSC(1); DatasheetVersion: Rev. 1.2; PackageVersion: V1.2, 10/2007; PackageReference: PG-TSSOP-38-4; PackageDescription: 38-Pin Plastic (Green) Thin Shrink Small Outline Package, Body 9.7 x 4.4 mm, Pitch 0.5 mm; Supplier 1: Mouser; Supplier Part Number 1: 726-SAKXC866L4FRABE; Supplier 2: Digi-Key; Supplier Part Number 2: SAK-XC866L-4FRA BE-ND; DMA Channels: 0; Green: TRUE; Halogen-free: TRUE; Instruction width [bits]: 8; LIN BSL loader (for fast Flash programming): TRUE; Max Clock Frequency: 26.67 MHz; On-chip clock generation: TRUE; On-chip Voltage Regulator: TRUE; Oscillator Watchdog: TRUE; Packing: Reel; Program Memory: 16 KByte; Real Time Clock (RTC): FALSE; SRAM (incl. Cache): 0.75 KByte; Timed I/O Pins (PWM-Ch,CAPCOM): 4; Watchdog Timer: TRUE; Mounting Technology: Surface Mount; ComponentLink1Description: Manufacturer URL; ComponentLink1URL: http://www.infineon.com/; ComponentLink2Description: Datasheet; ComponentLink2URL: http://www.infineon.com/dgdl/XC866_ds_v12.pdf?folderId=db3a304412b407950112b408e8c90004&fileId=db3a304412b407950112b4198e7528a5; ComponentLink3Description: Package Specification; ComponentLink3URL: http://www.infineon.com/dgdl/XC866_ds_v12.pdf?folderId=db3a304412b407950112b408e8c90004&fileId=db3a304412b407950112b4198e7528a5&sId=db3a30433d956bc3013da013eedc2925
footprint INF-PG-TSSOP-38-4_N (SOP, 38-Leads, Body 9.7x4.4mm, Pitch 0.5mm, IPC Medium Density)
footprint INF-PG-TSSOP-38-4_L (SOP, 38-Leads, Body 9.7x4.4mm, Pitch 0.5mm, IPC High Density)
footprint INF-PG-TSSOP-38-4_M (SOP, 38-Leads, Body 9.7x4.4mm, Pitch 0.5mm, IPC Low Density)
pins: 1 MBC (in) "Monitor & BootStrap Loader Control", 2 P0.3 (io), 3 P0.4 (io), 4 P0.5 (io), 5 XTAL2 "External Oscillator Output (NC if not needed)", 6 XTAL1 "External Oscillator Input (NC if not needed)", 7 VSSC (power) "Core Supply Ground", 8 VDDC (power) "Core Supply Monitor (2.5 V)", 9 P1.6 (io), 10 P1.7 (io), 11 TMS (in) "Test Mode Select", 12 P0.0 (io), 13 P0.2 (io), 14 P0.1 (io), 15 P2.0 (in), 16 P2.1 (in), 17 P2.2 (in), 18 VDDP (power) "I/O Port Supply (3.3 V/5.0 V) Also used by EVR and analog modules.", 19 VSSP (power) "I/O Port Ground", 20 P2.3 (in), 21 P2.4 (in), 22 P2.5 (in), 23 P2.6 (in), 24 VAGND (power) "ADC Reference Ground", 25 VAREF (power) "ADC Reference Voltage", 26 P2.7 (in), 27 P1.0 (io), 28 P1.1 (io), 29 P1.5 (io), 30 P3.6 (io), 31 P3.7 (io), 32 P3.0 (io), 33 P3.1 (io), 34 P3.2 (io), 35 P3.3 (io), 36 P3.4 (io), 37 P3.5 (io), 38 ~{RESET} (in) "Reset Input"

## SAK-XC866L-4FRI BC
designator U?
26.67 MHz XC800 MCU with 16 KByte Program Memory, 0.75 KByte SRAM, -40 to 125 degC, PG-TSSOP-38-4, Green; Manufacturer: Infineon; PartNumber: SAK-XC866L-4FRI BC; A / D input lines (incl. FADC): 8; CAN Nodes: 0; Green: TRUE; DatasheetVersion: Rev. 1.2; PackageVersion: V1.2, 10/2007; PackageReference: PG-TSSOP-38-4; PackageDescription: 38-Pin Plastic (Green) Thin Shrink Small Outline Package, Body 9.7 x 4.4 mm, Pitch 0.5 mm; Supplier 1: Digi-Key; Supplier Part Number 1: SAK-XC866L-4FRI BC-ND; Halogen-free: FALSE; Max Clock Frequency: 26.67 MHz; Program Memory: 16 KByte; SRAM (incl. Cache): 0.75 KByte; Mounting Technology: Surface Mount; ComponentLink1Description: Manufacturer URL; ComponentLink1URL: http://www.infineon.com/; ComponentLink2Description: Datasheet; ComponentLink2URL: http://www.infineon.com/dgdl/XC866_ds_v12.pdf?folderId=db3a304412b407950112b408e8c90004&fileId=db3a304412b407950112b4198e7528a5; ComponentLink3Description: Package Specification; ComponentLink3URL: http://www.infineon.com/dgdl/XC866_ds_v12.pdf?folderId=db3a304412b407950112b408e8c90004&fileId=db3a304412b407950112b4198e7528a5&sId=db3a30433d956bc3013da013eedc2925
footprint INF-PG-TSSOP-38-4_N (SOP, 38-Leads, Body 9.7x4.4mm, Pitch 0.5mm, IPC Medium Density)
footprint INF-PG-TSSOP-38-4_L (SOP, 38-Leads, Body 9.7x4.4mm, Pitch 0.5mm, IPC High Density)
footprint INF-PG-TSSOP-38-4_M (SOP, 38-Leads, Body 9.7x4.4mm, Pitch 0.5mm, IPC Low Density)
pins: 1 MBC (in) "Monitor & BootStrap Loader Control", 2 P0.3 (io), 3 P0.4 (io), 4 P0.5 (io), 5 XTAL2 "External Oscillator Output (NC if not needed)", 6 XTAL1 "External Oscillator Input (NC if not needed)", 7 VSSC (power) "Core Supply Ground", 8 VDDC (power) "Core Supply Monitor (2.5 V)", 9 P1.6 (io), 10 P1.7 (io), 11 TMS (in) "Test Mode Select", 12 P0.0 (io), 13 P0.2 (io), 14 P0.1 (io), 15 P2.0 (in), 16 P2.1 (in), 17 P2.2 (in), 18 VDDP (power) "I/O Port Supply (3.3 V/5.0 V) Also used by EVR and analog modules.", 19 VSSP (power) "I/O Port Ground", 20 P2.3 (in), 21 P2.4 (in), 22 P2.5 (in), 23 P2.6 (in), 24 VAGND (power) "ADC Reference Ground", 25 VAREF (power) "ADC Reference Voltage", 26 P2.7 (in), 27 P1.0 (io), 28 P1.1 (io), 29 P1.5 (io), 30 P3.6 (io), 31 P3.7 (io), 32 P3.0 (io), 33 P3.1 (io), 34 P3.2 (io), 35 P3.3 (io), 36 P3.4 (io), 37 P3.5 (io), 38 ~{RESET} (in) "Reset Input"

## SAK-XC866L-4FRI BE
designator U?
26.67 MHz XC800-Industrail MCU with 16 KByte Program Memory, 0.75 KByte SRAM, 5 V, -40 to 125 degC, PG-TSSOP-38, Reel, Green; Manufacturer: Infineon; PartNumber: SAK-XC866L-4FRI BE; A / D input lines (incl. FADC): 8; CAN Nodes: 0; Digital I/O Lines: 27; DSP functionality (e.g MDU/MAC): FALSE; E2PROM Emulation (Data-Flash): TRUE; I/O Operation Voltages: 5 V; Number of ADC Modules: 1; Power Modes: 4; Serial I/O Interfaces: 2; Timer / Counter: 3; Type of Memory: Flash; Type of Serial I/O Interfaces: UART(1), SSC(1); DatasheetVersion: Rev. 1.2; PackageVersion: V1.2, 10/2007; PackageReference: PG-TSSOP-38-4; PackageDescription: 38-Pin Plastic (Green) Thin Shrink Small Outline Package, Body 9.7 x 4.4 mm, Pitch 0.5 mm; Supplier 1: Mouser; Supplier Part Number 1: 726-SAK-XC866L4FRIBE; Supplier 2: Digi-Key; Supplier Part Number 2: SAK-XC866L-4FRI BE-ND; DMA Channels: 0; Green: TRUE; Halogen-free: TRUE; Instruction width [bits]: 8; LIN BSL loader (for fast Flash programming): TRUE; Max Clock Frequency: 26.67 MHz; On-chip clock generation: TRUE; On-chip Voltage Regulator: TRUE; Oscillator Watchdog: TRUE; Packing: Reel; Program Memory: 16 KByte; SRAM (incl. Cache): 0.75 KByte; Timed I/O Pins (PWM-Ch,CAPCOM): 4; Watchdog Timer: TRUE; Mounting Technology: Surface Mount; ComponentLink1Description: Manufacturer URL; ComponentLink1URL: http://www.infineon.com/; ComponentLink2Description: Datasheet; ComponentLink2URL: http://www.infineon.com/dgdl/XC866_ds_v12.pdf?folderId=db3a304412b407950112b408e8c90004&fileId=db3a304412b407950112b4198e7528a5; ComponentLink3Description: Package Specification; ComponentLink3URL: http://www.infineon.com/dgdl/XC866_ds_v12.pdf?folderId=db3a304412b407950112b408e8c90004&fileId=db3a304412b407950112b4198e7528a5&sId=db3a30433d956bc3013da013eedc2925
footprint INF-PG-TSSOP-38-4_N (SOP, 38-Leads, Body 9.7x4.4mm, Pitch 0.5mm, IPC Medium Density)
footprint INF-PG-TSSOP-38-4_L (SOP, 38-Leads, Body 9.7x4.4mm, Pitch 0.5mm, IPC High Density)
footprint INF-PG-TSSOP-38-4_M (SOP, 38-Leads, Body 9.7x4.4mm, Pitch 0.5mm, IPC Low Density)
pins: 1 MBC (in) "Monitor & BootStrap Loader Control", 2 P0.3 (io), 3 P0.4 (io), 4 P0.5 (io), 5 XTAL2 "External Oscillator Output (NC if not needed)", 6 XTAL1 "External Oscillator Input (NC if not needed)", 7 VSSC (power) "Core Supply Ground", 8 VDDC (power) "Core Supply Monitor (2.5 V)", 9 P1.6 (io), 10 P1.7 (io), 11 TMS (in) "Test Mode Select", 12 P0.0 (io), 13 P0.2 (io), 14 P0.1 (io), 15 P2.0 (in), 16 P2.1 (in), 17 P2.2 (in), 18 VDDP (power) "I/O Port Supply (3.3 V/5.0 V) Also used by EVR and analog modules.", 19 VSSP (power) "I/O Port Ground", 20 P2.3 (in), 21 P2.4 (in), 22 P2.5 (in), 23 P2.6 (in), 24 VAGND (power) "ADC Reference Ground", 25 VAREF (power) "ADC Reference Voltage", 26 P2.7 (in), 27 P1.0 (io), 28 P1.1 (io), 29 P1.5 (io), 30 P3.6 (io), 31 P3.7 (io), 32 P3.0 (io), 33 P3.1 (io), 34 P3.2 (io), 35 P3.3 (io), 36 P3.4 (io), 37 P3.5 (io), 38 ~{RESET} (in) "Reset Input"

## SAK-XC866L-4RRA BE
designator U?
26.67 MHz XC800-Automotive MCU with 16 KByte Program Memory, 0.75 KByte SRAM, 5 V, PG-TSSOP-38, Green; Manufacturer: Infineon; PartNumber: SAK-XC866L-4RRA BE; A / D input lines (incl. FADC): 8; CAN Nodes: 0; Digital I/O Lines: 27; DSP functionality (e.g MDU/MAC): FALSE; E2PROM Emulation (Data-Flash): TRUE; I/O Operation Voltages: 5 V; LIN BSL loader (for fast Flash programming): FALSE; Number of ADC Modules: 1; Power Modes: 4; Serial I/O Interfaces: 2; Timer / Counter: 3; Type of Memory: ROM; Type of Serial I/O Interfaces: UART(1), SSC(1); DatasheetVersion: Rev. 1.2; PackageVersion: V1.2, 10/2007; PackageReference: PG-TSSOP-38-4; PackageDescription: 38-Pin Plastic (Green) Thin Shrink Small Outline Package, Body 9.7 x 4.4 mm, Pitch 0.5 mm; DMA Channels: 0; Green: TRUE; Instruction width [bits]: 8; Max Clock Frequency: 26.67 MHz; On-chip clock generation: TRUE; On-chip Voltage Regulator: TRUE; Oscillator Watchdog: TRUE; Program Memory: 16 KByte; Real Time Clock (RTC): FALSE; SRAM (incl. Cache): 0.75 KByte; Timed I/O Pins (PWM-Ch,CAPCOM): 4; Watchdog Timer: TRUE; Mounting Technology: Surface Mount; ComponentLink1Description: Manufacturer URL; ComponentLink1URL: http://www.infineon.com/; ComponentLink2Description: Datasheet; ComponentLink2URL: http://www.infineon.com/dgdl/XC866_ds_v12.pdf?folderId=db3a304412b407950112b408e8c90004&fileId=db3a304412b407950112b4198e7528a5; ComponentLink3Description: Package Specification; ComponentLink3URL: http://www.infineon.com/dgdl/XC866_ds_v12.pdf?folderId=db3a304412b407950112b408e8c90004&fileId=db3a304412b407950112b4198e7528a5&sId=db3a30433d956bc3013da013eedc2925
footprint INF-PG-TSSOP-38-4_N (SOP, 38-Leads, Body 9.7x4.4mm, Pitch 0.5mm, IPC Medium Density)
footprint INF-PG-TSSOP-38-4_L (SOP, 38-Leads, Body 9.7x4.4mm, Pitch 0.5mm, IPC High Density)
footprint INF-PG-TSSOP-38-4_M (SOP, 38-Leads, Body 9.7x4.4mm, Pitch 0.5mm, IPC Low Density)
pins: 1 MBC (in) "Monitor & BootStrap Loader Control", 2 P0.3 (io), 3 P0.4 (io), 4 P0.5 (io), 5 XTAL2 "External Oscillator Output (NC if not needed)", 6 XTAL1 "External Oscillator Input (NC if not needed)", 7 VSSC (power) "Core Supply Ground", 8 VDDC (power) "Core Supply Monitor (2.5 V)", 9 P1.6 (io), 10 P1.7 (io), 11 TMS (in) "Test Mode Select", 12 P0.0 (io), 13 P0.2 (io), 14 P0.1 (io), 15 P2.0 (in), 16 P2.1 (in), 17 P2.2 (in), 18 VDDP (power) "I/O Port Supply (3.3 V/5.0 V) Also used by EVR and analog modules.", 19 VSSP (power) "I/O Port Ground", 20 P2.3 (in), 21 P2.4 (in), 22 P2.5 (in), 23 P2.6 (in), 24 VAGND (power) "ADC Reference Ground", 25 VAREF (power) "ADC Reference Voltage", 26 P2.7 (in), 27 P1.0 (io), 28 P1.1 (io), 29 P1.5 (io), 30 P3.6 (io), 31 P3.7 (io), 32 P3.0 (io), 33 P3.1 (io), 34 P3.2 (io), 35 P3.3 (io), 36 P3.4 (io), 37 P3.5 (io), 38 ~{RESET} (in) "Reset Input"